# EAGLE library part KS5313 (library mita-akiba)
Melody IC Samsung Electronics
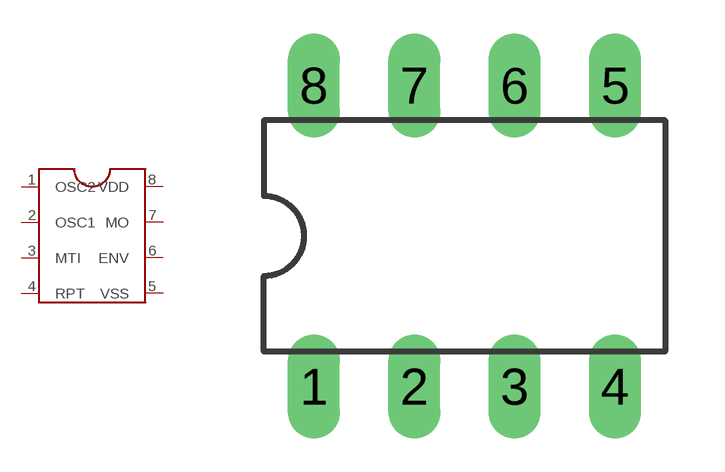
[diagram p60: symbol with the pads of DIL08; footprint DIL08]

Designator prefix -

## KS5313DIL8  [DIL08]
1  OSC2
2  OSC1
3  MTI
4  RPT
5  VSS
6  ENV
7  MO
8  VDD

## Footprint DIL08 (pad centres in mm)
Dual In Line Package
drill 0.813 long: 1 -3.81,-3.81; 2 -1.27,-3.81; 3 1.27,-3.81; 4 3.81,-3.81; 5 3.81,3.81; 6 1.27,3.81; 7 -1.27,3.81; 8 -3.81,3.81